# Altium footprint library AU0006A.PcbLib: 42 footprints (part 3 of 3)
Each footprint in its own frame and in the unit in brackets; x right, y up, seen from the top. Pads: shape width x height; smd on the part's side, far side on the other; paste and mask are expansions set on the pad; w line width, h text height; cw(c..) or ccw(c..) is an arc to the next point about the centre after c.
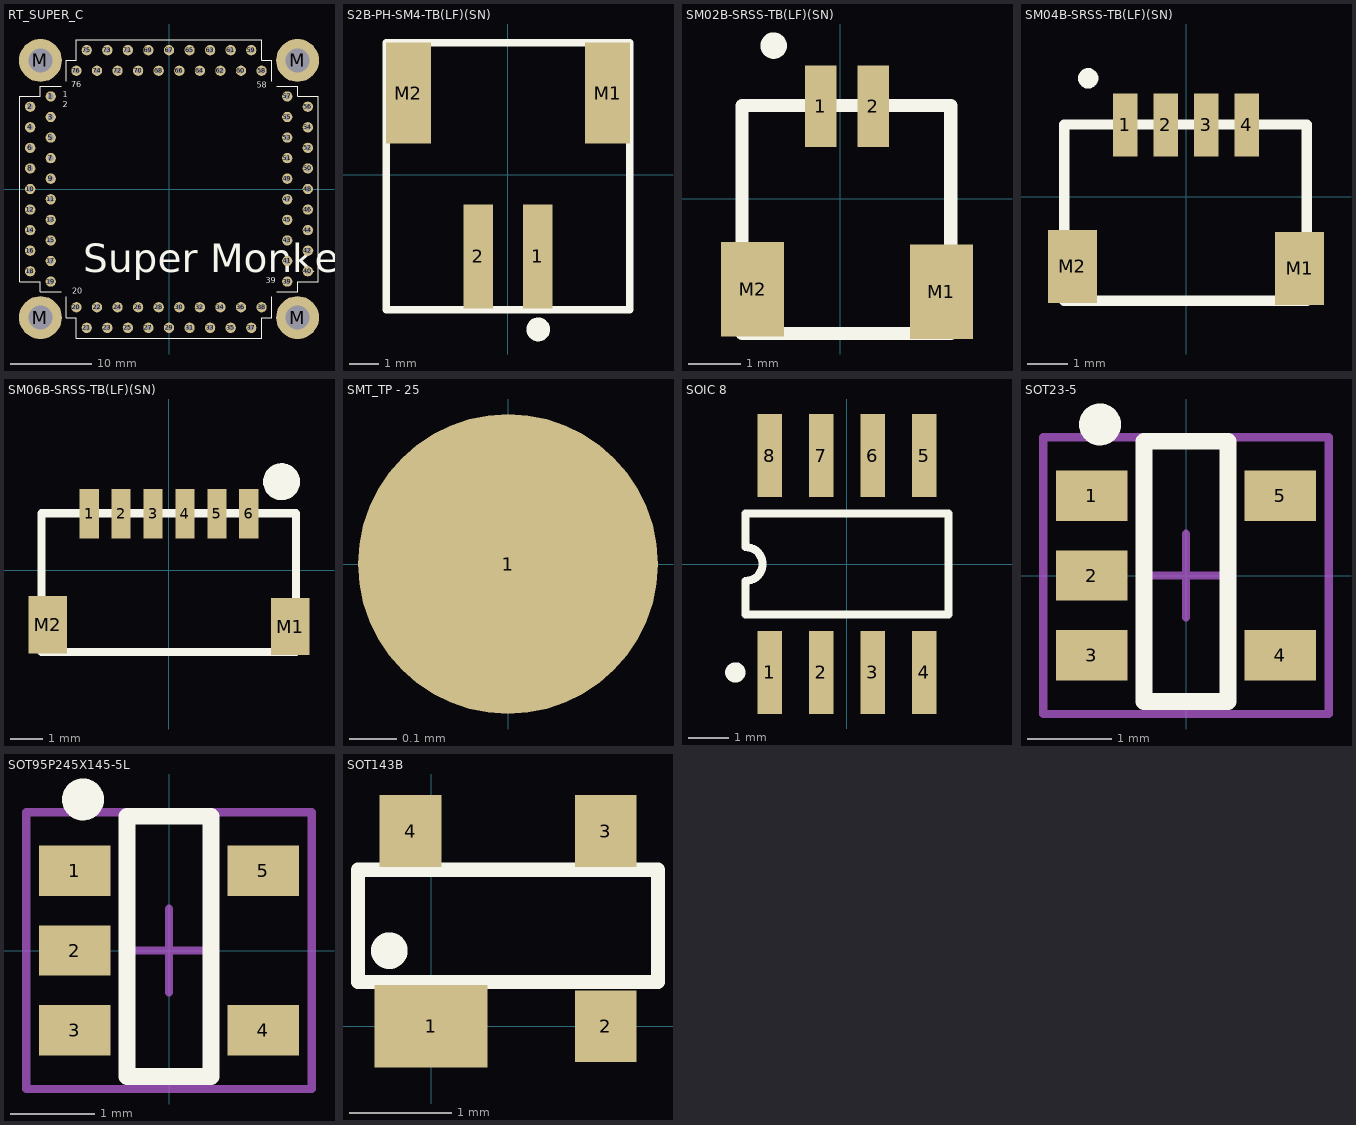
[diagram p2: the footprints below, top view; thin cyan lines are the x and y axes]

## RT_SUPER_C [mil]
height 109.06
pads (80):
  round 50 hole 28: 1(-575,450) 2(-675,400) 3(-575,350) 4(-675,300) 5(-575,250) 6(-675,200) 7(-575,150) 8(-675,100) 9(-575,50) 10(-675,0) 11(-575,-50) 12(-675,-100) 13(-575,-150) 14(-675,-200) 15(-575,-250) 16(-675,-300) 17(-575,-350) 18(-675,-400) 19(-575,-450) 20(-450,-575) 21(-400,-675) 22(-350,-575) 23(-300,-675) 24(-250,-575) 25(-200,-675) 26(-150,-575) 27(-100,-675) 28(-50,-575) 29(0,-675) 30(50,-575) 31(100,-675) 32(150,-575) 33(200,-675) 34(250,-575) 35(300,-675) 36(350,-575) 37(400,-675) 38(450,-575) 39(575,-450) 40(675,-400) 41(575,-350) 42(675,-300) 43(575,-250) 44(675,-200) 45(575,-150) 46(675,-100) 47(575,-50) 48(675,0) 49(575,50) 50(675,100) 51(575,150) 52(675,200) 53(575,250) 54(675,300) 55(575,350) 56(675,400) 57(575,450) 58(450,575) 59(400,675) 60(350,575) 61(300,675) 62(250,575) 63(200,675) 64(150,575) 65(100,675) 66(50,575) 67(0,675) 68(-50,575) 69(-100,675) 70(-150,575) 71(-200,675) 72(-250,575) 73(-300,675) 74(-350,575) 75(-400,675) 76(-450,575)
  round 208.66 hole 118.11: M(-625,-625) M(-625,625) M(625,-625) M(625,625)
Top Overlay:
  lines w5: -525,-500 -625,-500 -625,-450 -725,-450 -725,450 -625,450 -625,500 -525,500 ; -500,-525 -500,-625 -450,-625 -450,-725 450,-725 450,-625 500,-625 500,-525 ; -500,525 -500,625 -450,625 -450,725 450,725 450,625 500,625 500,525 ; 525,-500 625,-500 625,-450 725,-450 725,450 625,450 625,500 525,500
  text "1" at -516,437 h50
  text "2" at -517,388 h50
  text "20" at -470,-518 h50
  text "76" at -475,484 h50
  text "39" at 470,-468 h50
  text "58" at 427,483 h50
  text "Super Monkey" at -418,-450 h236.22
Bottom Overlay:
  text "1" at -525,437 h50
  text "2" at -616,382 h50
  text "20" at -428,-518 h50
  text "76" at -429,484 h50
  text "39" at 516,-470 h50
  text "58" at 470,483 h50
  text "M" at 400,-200 h1181.1
3D body "SS-109-T-2.stp": height 173, standoff -127, extent -450,-725 450,-625
3D body "SS-109-T-2.stp": height 173, standoff -127, extent -450,625 450,725
3D body "SS-109-T-2.stp": height 173, standoff -127, extent 625,-450 725,450
3D body "SS-109-T-2.stp": height 173, standoff -127, extent -725,-450 -625,450
3D body "SS-110-T-2.stp": height 173, standoff -127, extent -500,-625 500,-525
3D body "SS-110-T-2.stp": height 173, standoff -127, extent 525,-500 625,500
3D body "SS-110-T-2.stp": height 173, standoff -127, extent -500,525 500,625
3D body "SS-110-T-2.stp": height 173, standoff -127, extent -625,-500 -525,500
3D body "RT_SUPER_C.step": height 466, standoff 11.14, extent -725,-725 725,725
3D body "9774050243R (rev1).stp": height 196.85, standoff -55.12, extent -710.63,-710.16 -539.37,-539.84
3D body "9774050243R (rev1).stp": height 196.85, standoff -55.12, extent 539.37,-710.16 710.63,-539.84
3D body "9774050243R (rev1).stp": height 196.85, standoff -55.12, extent 539.37,539.84 710.63,710.16
3D body "9774050243R (rev1).stp": height 196.85, standoff -55.12, extent -710.63,539.84 -539.37,710.16

## S2B-PH-SM4-TB(LF)(SN) [mm] "CONN HEADER PH SIDE 2POS 2MM SMD"
height 2.77
pads (4):
  rect 1x3.5 smd: 1(1,-2.75) 2(-1,-2.75)
  rect 1.5x3.4 smd: M1(3.35,2.75) M2(-3.35,2.75)
Top Overlay:
  circle w0.4: c1.017,-5.205 r0.2
  lines w0.254: -4.1,-4.55 4.1,-4.55 4.1,4.45 -4.1,4.45 -4.1,-4.55
3D body "S2B-PH-SM4-TB.stp": height 5.6, standoff 0, extent -3.966,-4.39 3.934,4.21

## SM02B-SRSS-TB(LF)(SN) [mm] "CONN HEADER SH 2POS SIDE 1MM TIN"
height 3.1
pads (4):
  rect 0.6x1.55 smd: 1(-0.373,1.769) 2(0.627,1.769)
  rect 1.2x1.8 smd: M1(1.927,-1.769) M2(-1.673,-1.719)
Top Overlay:
  circle w0.25: c-1.27,2.921 r0.127
  lines w0.254: -1.873,-2.564 2.102,-2.564 2.102,1.781 -1.873,1.781 -1.873,-2.564
3D body "SM02B-SRSS-TB.STEP": height 2.97, standoff 0.01, extent -1.873,-2.579 2.127,2.371

## SM04B-SRSS-TB(LF)(SN) [mm] "CONN HEADR SH 4POS SIDE 1MM TIN"
height 3.1
pads (6):
  rect 0.6x1.55 smd: 1(-1.5,1.769) 2(-0.5,1.769) 3(0.5,1.769) 4(1.5,1.769)
  rect 1.2x1.8 smd: M1(2.8,-1.769) M2(-2.8,-1.719)
Top Overlay:
  circle w0.25: c-2.413,2.921 r0.127
  lines w0.254: -3,-2.564 -3,1.781 2.975,1.781 2.975,-2.564 -3,-2.564
3D body "SM04B-SRSS-TB.STEP": height 2.91, standoff -0.05, extent -3,-2.645 3,2.305

## SM06B-SRSS-TB(LF)(SN) [mm] "CONN HEADR SH 6POS SIDE 1MM TIN"
height 1.6
pads (8):
  rect 0.6x1.55 smd: 1(-2.5,1.769) 2(-1.5,1.769) 3(-0.5,1.769) 4(0.5,1.769) 5(1.5,1.769) 6(2.5,1.769)
  rect 1.2x1.8 smd: M1(3.8,-1.769) M2(-3.8,-1.719)
Top Overlay:
  circle w0.6: c3.525,2.769 r0.28
  lines w0.254: -4,-2.564 3.975,-2.564 3.975,1.781 -4,1.781 -4,-2.564
3D body "SM06B-SRSS-TB.STEP": height 2.97, standoff 0.01, extent -4,-2.444 4,2.506

## SMT_TP - 25 [mm] ".025\" SMT Test pad"
height 3.1
pads (1):
  round 0.635 smd paste-0.635: 1(0,0)

## SOIC 8 [mm]
height 3.1
pads (8):
  rect 0.6x2.05 smd: 1(-1.905,-2.675) 2(-0.635,-2.675) 3(0.635,-2.675) 4(1.905,-2.675) 5(1.905,2.675) 6(0.635,2.675) 7(-0.635,2.675) 8(-1.905,2.675)
Top Overlay:
  circle w0.25: c-2.755,-2.675 r0.125
  lines w0.2: -2.5,-0.417 -2.5,-1.25 2.5,-1.25 2.5,1.25 -2.5,1.25 -2.5,0.417 ; -2.5,-0.417 ccw(c-2.5,0) -2.5,0.417
3D body "SW3dPS-SOIC8.step": height 1.88, standoff -0.03, extent -2.489,-3.195 2.515,3.144

## SOT23-5 [mm] "SOT23, 5-Leads, Body 3.1x2.6mm (max), Pitch 0.95mm, IPC High Density"
height 1.45
pads (5):
  rect 0.85x0.6 smd: 1(-1.125,0.95) 2(-1.125,0) 3(-1.125,-0.95) 4(1.125,-0.95) 5(1.125,0.95)
Top Overlay:
  circle w0.25: c-1.025,1.8 r0.125
  lines w0.2: -0.5,-1.5 0.5,-1.5 0.5,1.6 -0.5,1.6 -0.5,-1.5
Mechanical 15:
  lines w0.1: -0.5,0 0.5,0 ; 0,-0.5 0,0.5 ; -1.7,-1.65 -1.7,1.65 1.7,1.65 1.7,-1.65 -1.7,-1.65
3D body "ct-sot-23-5.stp": height 1.15, standoff -0.03, extent -1.379,-1.45 1.321,1.45

## SOT95P245X145-5L [mm] "SOT23, 5-Leads, Body 3.1x2.6mm (max), Pitch 0.95mm, IPC High Density"
height 1.45
pads (5):
  rect 0.85x0.6 smd: 1(-1.125,0.95) 2(-1.125,0) 3(-1.125,-0.95) 4(1.125,-0.95) 5(1.125,0.95)
Top Overlay:
  circle w0.25: c-1.025,1.8 r0.125
  lines w0.2: -0.5,-1.5 0.5,-1.5 0.5,1.6 -0.5,1.6 -0.5,-1.5
Mechanical 15:
  lines w0.1: -0.5,0 0.5,0 ; 0,-0.5 0,0.5 ; -1.7,-1.65 -1.7,1.65 1.7,1.65 1.7,-1.65 -1.7,-1.65
3D body "ct-sot-23-5.stp": height 1.15, standoff -0.03, extent -1.379,-1.45 1.321,1.45

## SOT143B [mm] "SOT143B"
height 1.1
pads (4):
  rect 1.1x0.8 smd: 1(0,0)
  rect 0.6x0.7 smd: 2(1.702,0) 3(1.702,1.9) 4(-0.2,1.9)
Top Overlay:
  circle w0.254: c-0.406,0.737 r0.051
  lines w0.14: -0.711,0.432 -0.711,1.524 2.21,1.524 2.21,0.432 -0.711,0.432
3D body "User Library-sot143.step": height 1, standoff 0, extent -0.698,-0.27 2.222,2.15